# Altium schematic symbol library USB to SATA.SchLib: 15 symbols
Pins are listed as number, name and electrical type; pins without a type are passive.

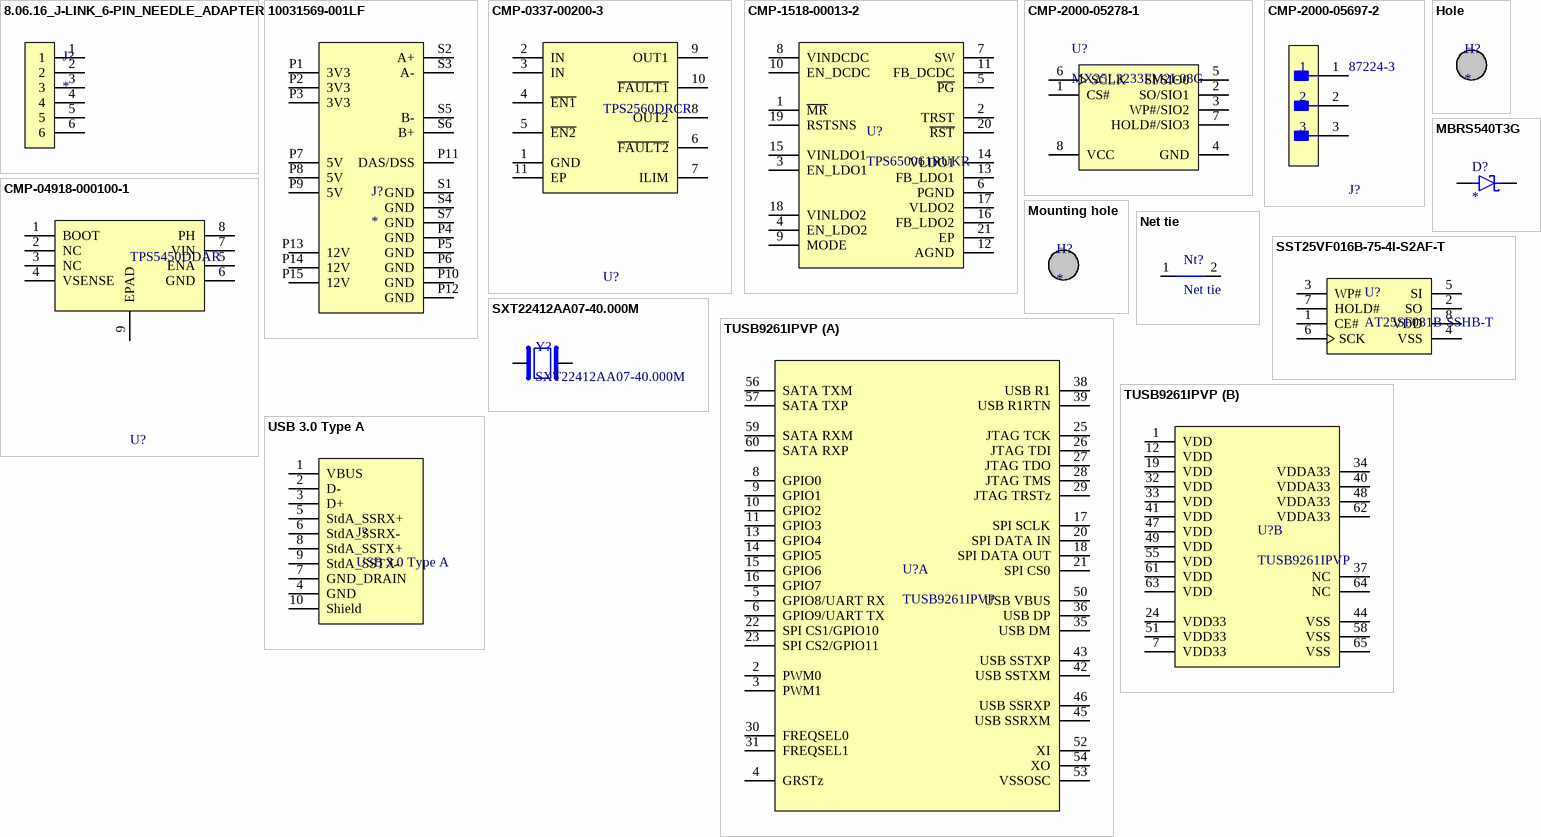
[diagram p0: symbols 8.06.16_J-LINK_6-PIN_NEEDLE_ADAPTER to USB 3.0 Type A]

## 8.06.16_J-LINK_6-PIN_NEEDLE_ADAPTER
designator J?
J-LINK 6-PIN NEEDLE ADAPTER; MF: {'manufacturer': u'Segger Microcontroller'}; MP: 8.06.16_J-LINK_6-PIN_NEEDLE_ADAPTER; Package: None; Price: None; Value: *; Availability: Unavailable
footprint SEGGER_8.06.16_J-LINK_6-PIN_NEEDLE_ADAPTER
pins: 1, 2, 3, 4, 5, 6

## 10031569-001LF
designator J?
MF: {'manufacturer': u'Amphenol ICC'}; MP: 10031569-001LF; Package: None; Price: None; Value: *; Availability: Unavailable
footprint AMPHENOL_10031569-001LF
pins: P1 3V3, P2 3V3, P3 3V3, P4 GND, P5 GND, P6 GND, P7 5V, P8 5V, P9 5V, P10 GND, P11 DAS/DSS, P12 GND, P13 12V, P14 12V, P15 12V, S1 GND, S2 A+, S3 A-, S4 GND, S5 B-, S6 B+, S7 GND

## CMP-0337-00200-3
designator U?, comment TPS2560DRCR
IC PWR SWITCH N-CHAN 1:2 10VSON; Fault Protection: Over Temperature; Nominal Supply Current: 100uA; Number of Switches: 2; Turn-Off Delay Time: 6ms; On-State Resistance: 70mR; Max Supply Voltage: 6.5V; Min Input Voltage: 2.5V; Max Power Dissipation: 2.403W; Turn-On Delay Time: 9ms; Max Output Current: 2.5A; Interface: On/Off; Output Configuration: High Side; Package Quantity: 3000; RoHS Compliant: Yes; Lead Free: Lead Free; Min Operating Temperature: -40°C; Radiation Hardening: No; Max Operating Temperature: 85°C; Max Input Voltage: 6.5V; Min Supply Voltage: 2.5V; Number of Outputs: 2; Number of Pins: 10; Supply Current: 100uA; Type: General Purpose; Series: -; Case/Package: VSON; Packaging: Tape and Reel
footprint FP-DRC0010J-IPC_A
pins: 1 GND, 2 IN (power), 3 IN (power), 4 ~{EN1}, 5 ~{EN2}, 6 ~{FAULT2}, 7 ILIM, 8 OUT2, 9 OUT1, 10 ~{FAULT1}, 11 EP

## CMP-1518-00013-2
designator U?, comment TPS650061RUKR
1 A, 2.25 MHz Step-Down Converter with Dual LDOs & SVS, 2.3 to 6 V, -40 to 85 degC, 20-pin WQFN (RUK), Green (RoHS & no Sb/Br); Manufacturer: Texas Instruments; Vin(Min)(V): 2.3; Iout(Max)(A): 1; Regulated Outputs(#): 3; Eco-Plan: TRUE; Packing: Large Tape and Reel; Vin(Max)(V): 6; ComponentLink3Description: Package Specification; PackageDescription: 20-Pin Plastic Flat Pack, Body 3 x 3 mm, Pitch 0.4 mm; Code_JEDEC: MO-220; ComponentLink2Description: Datasheet; ComponentLink1URL: http://www.ti.com/; ComponentLink2URL: http://www.ti.com/lit/ds/symlink/tps650061.pdf; ComponentLink1Description: Manufacturer URL; DatasheetVersion: SLVS810B; Mounting Technology: Surface Mount; PartNumber: TPS650061RUKR; PackageVersion: 4208637/C, 01/2012; ComponentLink3URL: http://www.ti.com/litv/pdf/mpqf220b; Step-Down DC/DC Converter: 1; PackageReference: RUK0020B
footprint RUK0020B (QFN, 20-Leads, Body 3.1x3.1mm, Pitch 0.4mm, Thermal Pad 1.7x1.7mm)
pins: 1 ~{MR} "Active low input to force a reset.", 2 TRST "Capacitor connection for setting reset time.", 3 EN_LDO1 "Enable LDO1", 4 EN_LDO2 "Enable LDO2", 5 ~{PG} "Open drain active low power good output.", 6 PGND "Power ground - Connected to the PowerPAD", 7 SW "Switch pin - connect inductor here", 8 VINDCDC "Input voltage to DCDC converter and all other control blocks.", 9 MODE "Selects force PWM or PWM/PFM automatic transition mode", 10 EN_DCDC "Enable DCDC converter", 11 FB_DCDC "Voltage to DCDC error amplifier", 12 AGND "Analog ground - Star back to PGND as close to the IC as possible.", 13 FB_LDO1 "Voltage to LDO1 error amplifier", 14 VLDO1 "LDO1 output voltage", 15 VINLDO1 "Input voltage to LDO1", 16 FB_LDO2 "Voltage to LDO2 error amplifier", 17 VLDO2 "LDO2 output voltage", 18 VINLDO2 "Input voltage to LDO2", 19 RSTSNS "Voltage for R\S\T\ generation", 20 ~{RST} "Open drain active low reset output.", 21 EP

## CMP-2000-05278-1
designator U?, comment MX25L3233FM2I-08G
CMOS MXSMIO(R) (Serial Multi I/O) Flash Memory, 32 Mbits (x1/x2/x4), 3 V, -40 to 85 degC, 8-Pin SOP; Manufacturer: Macronix; Manufacturer URL: http://www.macronix.com; Package Description: 8-Pin Small Outline Package, Body 5.23 x 5.28 mm, Pitch 1.27 mm; Datasheet URL: http://datasheet.octopart.com/MX25L3233FM2I-08G-Macronix-datasheet-38883555.pdf; Datasheet Version: Rev. 1.1, 01/2015; Package Reference: SOP-8
footprint MXIC-SOP-8_M (SOP, 8-Leads, Body 5.4x5.3mm, Pitch 1.27mm, IPC Low Density)
pins: 1 CS# "Chip Select", 2 SO/SIO1 "Serial Data Output (for 1xI/O)/Serial Data Input & Output (for 2xI/O mode and 4xI/O mode)", 3 WP#/SIO2 "Write protection Active Low or Serial Data Input & Output (for 4xI/O mode)", 4 GND "Ground", 5 SI/SIO0 "Serial Data Input (for 1xI/O)/ Serial Data Input & Output (for 2xI/O mode and 4xI/O mode)", 6 SCLK "Clock Input", 7 HOLD#/SIO3 "To pause the device without deselecting the device or Serial data Input/Output for 4 x I/O mode", 8 VCC "+ 3.0V Power Supply"

## CMP-2000-05697-2
designator J?, comment 87224-3
CONN HEADER VERT 3POS 2.54MM; Number of Positions: 3; Gasket: No (Without); High Speed Serial Data Connector: No; Current Rating: 3A; Contact Post Length: 0.125inch; PCB Thickness: 1.397mm; PCB Mount Retention: Without; Connector Type: Plug; Approvals: CSA; PCB Mounting Orientation: Vertical; Pitch: 2.54mm; Mating Alignment: No (Without); Housing Color: Black; Contact Gender: Male; Length: 7.21mm; Max Operating Temperature: 105°C; Strain Relief: No (Without); Contact Material: Bronze; Row Spacing: 2.54mm; Series: AMPMODU MOD II; Board Standoff: No (Without); Package Quantity: 520; Radiation Hardening: No; Contact Protection: No (Without); Stabilizers: No (Without); Number of Rows: 1; Contact Mating Length: 8.08mm; Contact Shape: Square; Depth: 2.54mm; Contact Current Rating: 3A; Flammability Rating: UL94 V-0; Packaging: Carton; Number of Contacts: 3; Orientation: Straight; Mount: Through Hole; Keyed: No; Contact Type: Male Pin; Housing Material: Thermoplastic; High Temperature Housing: No; ELV: Compliant; Contact Plating: Gold; Termination: Through Hole; Selectively Loaded: No (Without); Lead Free: Lead Free; Min Operating Temperature: -65°C; Mating Connector Lock: No (Without); Color: Black; RoHS Compliant: Yes
footprint FP-87224-3-MFG
pins: 1, 2, 3

## CMP-04918-000100-1
designator U?, comment TPS5450DDAR
IC REG BUCK ADJUSTABLE 5A 8SOPWR; Manufacturer: Texas Instruments; Output Type: AdjustableProgrammable; Output Voltage: 1.22-31V; Max Duty Cycle: 89%; Min Supply Voltage: 5.5V; Standoff Height: 0mm; Max Junction Temp: +125°C; Max Supply Voltage: 36V; Nominal Supply Current: 3mA; Number Of Outputs: 1; Switching Frequency: 500kHz; Device Class L3: Voltage Regulators - Switching; Octopart: https://octopart.com/tps5450ddar-texas+instruments-7105511; Temperature: -40°C to +125°C; Mouser Description: Conv DC-DC 5.5V to 36V Step Down Single-Out 1.22V to 31V 5A 8-Pin HSOP EP T/R; Device Class L1: Integrated Circuits (ICs); ComponentLink2URL: https://www.ti.com/lit/ds/symlink/tps5450.pdf; Automotive: No; Package: DDA0008J; ComponentLink2Description: Datasheet; Temperature Range Low: -40°C; RoHS: TRUE; Digikey Description: IC REG BUCK ADJUSTABLE 5A 8SOPWR; Lead Free: Yes; Manufacturer Part Number: TPS5450DDAR; Device Class L2: Power Management ICs; Temperature Range High: +125°C; Output Current: 5A; Height: 1.7mm; Ipc Land Pattern Name: SOIC127P600X170-8; Category: IC; Switching Topology: Buck
footprint FP-DDA0008J-IPC_A
pins: 1 BOOT, 2 NC, 3 NC, 4 VSENSE, 5 ENA, 6 GND, 7 VIN, 8 PH, 9 EPAD (power)

## Hole
designator H?
footprint Hole

## MBRS540T3G
designator D?
MF: {'manufacturer': u'ON Semiconductor'}; MP: MBRS540T3G; Package: None; Price: None; Value: *; Availability: Unavailable
footprint DIOM7959X261N
pins: 1 C, 2 A

## Mounting hole
designator H?
footprint Mounting hole

## Net tie
designator Nt?  (net tie, no BOM)
Net tie SMD
footprint Net tie
pins: 1, 2

## SST25VF016B-75-4I-S2AF-T
designator U?, comment AT25SF081B-SSHB-T
FLASH - NOR Memory IC 8Mbit SPI - Quad I/O 108 MHz 8-SOIC; MF: {'manufacturer': u'Microchip Technology'}; MP: SST25VF016B-75-4I-S2AF-T; Package: None; Price: None; Value: *; Availability: Unavailable
footprint SOIC127P790X216-8N
pins: 1 CE#, 2 SO, 3 WP#, 4 VSS (power), 5 SI, 6 SCK, 7 HOLD#, 8 VDD (power)

## SXT22412AA07-40.000M
designator Y?
40 MHz ±50ppm Crystal 12pF 50 Ohms 4-SMD, No Lead; MF: Suntsu Electronics, Inc; Frequency: 40 MHz; Package: 4-SMD, No Lead; Type: MHz Crystal; MP: SXT22412AA07-40.000M; Frequency Stability: ±50ppm; Supplier 1: Digikey; Supplier Part Number 1: 2388-SXT22412AA07-40.000MTR-ND; Frequency Tolerance: ±50ppm
footprint XTAL_SXT22412AA16-40.000MT
pins: 1, 3

## TUSB9261IPVP
designator U?
HDD, CD, DVD Drive Interface 64-HTQFP (7x7); Manufacturer: Texas Instruments; Interface: USB; Supplier 1: Mouser; Supplier Part Number 1: 595-TUSB9261IPVP; DigiKey Part Number: 296-35545-ND; Manufacturer Product Number: TUSB9261IPVP; Applications: HDD, CD, DVD Drive; Package / Case: 64-TQFP Exposed Pad
footprint FP-PVP0064A-IPC_A
footprint FP-PVP0064A-IPC_B
footprint FP-PVP0064A-IPC_C
part A pins: 2 PWM0, 3 PWM1, 4 GRSTz, 5 GPIO8/UART RX, 6 GPIO9/UART TX, 8 GPIO0, 9 GPIO1, 10 GPIO2, 11 GPIO3, 13 GPIO4, 14 GPIO5, 15 GPIO6, 16 GPIO7, 17 SPI SCLK, 18 SPI DATA OUT, 20 SPI DATA IN, 21 SPI CS0, 22 SPI CS1/GPIO10, 23 SPI CS2/GPIO11, 25 JTAG TCK, 26 JTAG TDI, 27 JTAG TDO, 28 JTAG TMS, 29 JTAG TRSTz, 30 FREQSEL0, 31 FREQSEL1, 35 USB DM, 36 USB DP, 38 USB R1, 39 USB R1RTN, 42 USB SSTXM, 43 USB SSTXP, 45 USB SSRXM, 46 USB SSRXP, 50 USB VBUS, 52 XI, 53 VSSOSC, 54 XO, 56 SATA TXM, 57 SATA TXP, 59 SATA RXM, 60 SATA RXP
part B pins: 1 VDD, 7 VDD33, 12 VDD, 19 VDD, 24 VDD33, 32 VDD, 33 VDD, 34 VDDA33, 37 NC, 40 VDDA33, 41 VDD, 44 VSS, 47 VDD, 48 VDDA33, 49 VDD, 51 VDD33, 55 VDD, 58 VSS, 61 VDD, 62 VDDA33, 63 VDD, 64 NC, 65 VSS

## USB 3.0 Type A
designator J?
USB 3.0 Type A male connector
footprint USB 3.0 Type A (USB 3.0 Type A male connector)
pins: 1 VBUS, 2 D-, 3 D+, 4 GND, 5 StdA_SSRX+, 6 StdA_SSRX-, 7 GND_DRAIN, 8 StdA_SSTX+, 9 StdA_SSTX-, 10 Shield